# Altium footprint library 632722110112.PcbLib: 1 footprints
Each footprint in its own frame and in the unit in brackets; x right, y up, seen from the top. Pads: shape width x height; smd on the part's side, far side on the other; paste and mask are expansions set on the pad; w line width, h text height; cw(c..) or ccw(c..) is an arc to the next point about the centre after c.
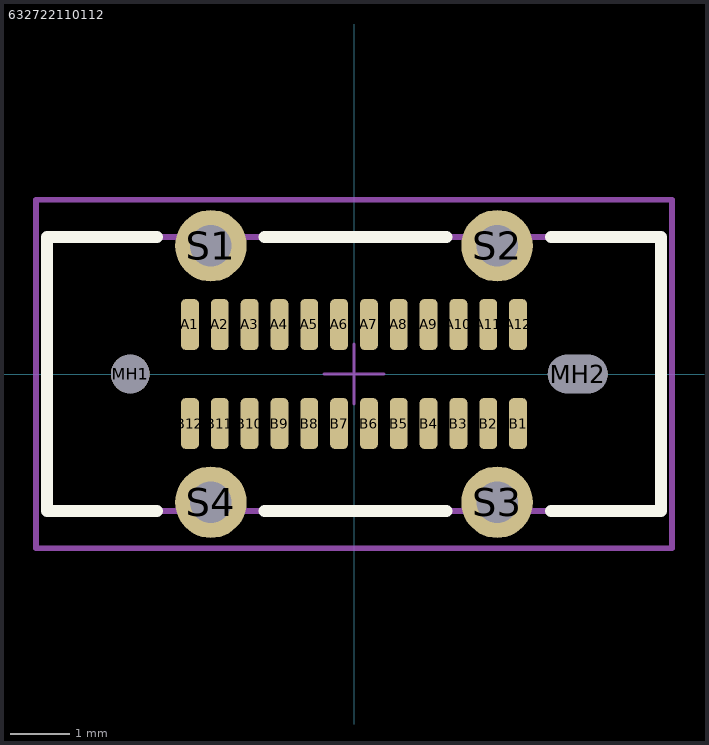
[diagram p0: the footprint, top view; thin cyan lines are the x and y axes]

## 632722110112 [mm] "USB_Type C 3.1_Vertical_SMT_1,0mm"
height 7.6
pads (30):
  rrect50% 0.3x0.85 smd: A1(-2.75,0.83) A2(-2.25,0.83) A3(-1.75,0.83) A4(-1.25,0.83) A5(-0.75,0.83) A6(-0.25,0.83) A7(0.25,0.83) A8(0.75,0.83) A9(1.25,0.83) A10(1.75,0.83) A11(2.25,0.83) A12(2.75,0.83) B1(2.75,-0.83) B2(2.25,-0.83) B3(1.75,-0.83) B4(1.25,-0.83) B5(0.75,-0.83) B6(0.25,-0.83) B7(-0.25,-0.83) B8(-0.75,-0.83) B9(-1.25,-0.83) B10(-1.75,-0.83) B11(-2.25,-0.83) B12(-2.75,-0.83)
  round 0.65 hole 0.65 unplated: MH1(-3.75,0)
  oval 1x0.58 hole 0.65 slot 1 at 0 deg unplated: MH2(3.75,0)
  round 1.2 hole 0.7: S1(-2.4,2.15) S2(2.4,2.15) S3(2.4,-2.15) S4(-2.4,-2.15)
Top Overlay:
  lines w0.2: -3.3,-2.3 -5.15,-2.3 -5.15,2.3 -3.3,2.3 ; -1.5,-2.3 1.55,-2.3 ; -1.5,2.3 1.55,2.3 ; 3.3,-2.3 5.15,-2.3 5.15,2.3 3.3,2.3
Top Assembly (Mech2):
  lines w0.1: -5.15,-2.3 -5.15,2.3 5.15,2.3 5.15,-2.3 -5.15,-2.3
Top Courtyard:
  lines w0.05: -0.5,0 0.5,0 ; 0,-0.5 0,0.5
  lines w0.1: -5.334,-2.921 -5.334,2.921 5.334,2.921 5.334,-2.921 -5.334,-2.921
3D body "632722110112.stp": height 7.95, standoff -1.32, extent -5.15,-2.3 5.15,2.3